# Altium integrated library TI Data Converters Analog to Digital Converter.IntLib: 2197 symbols (part 109 of 168)
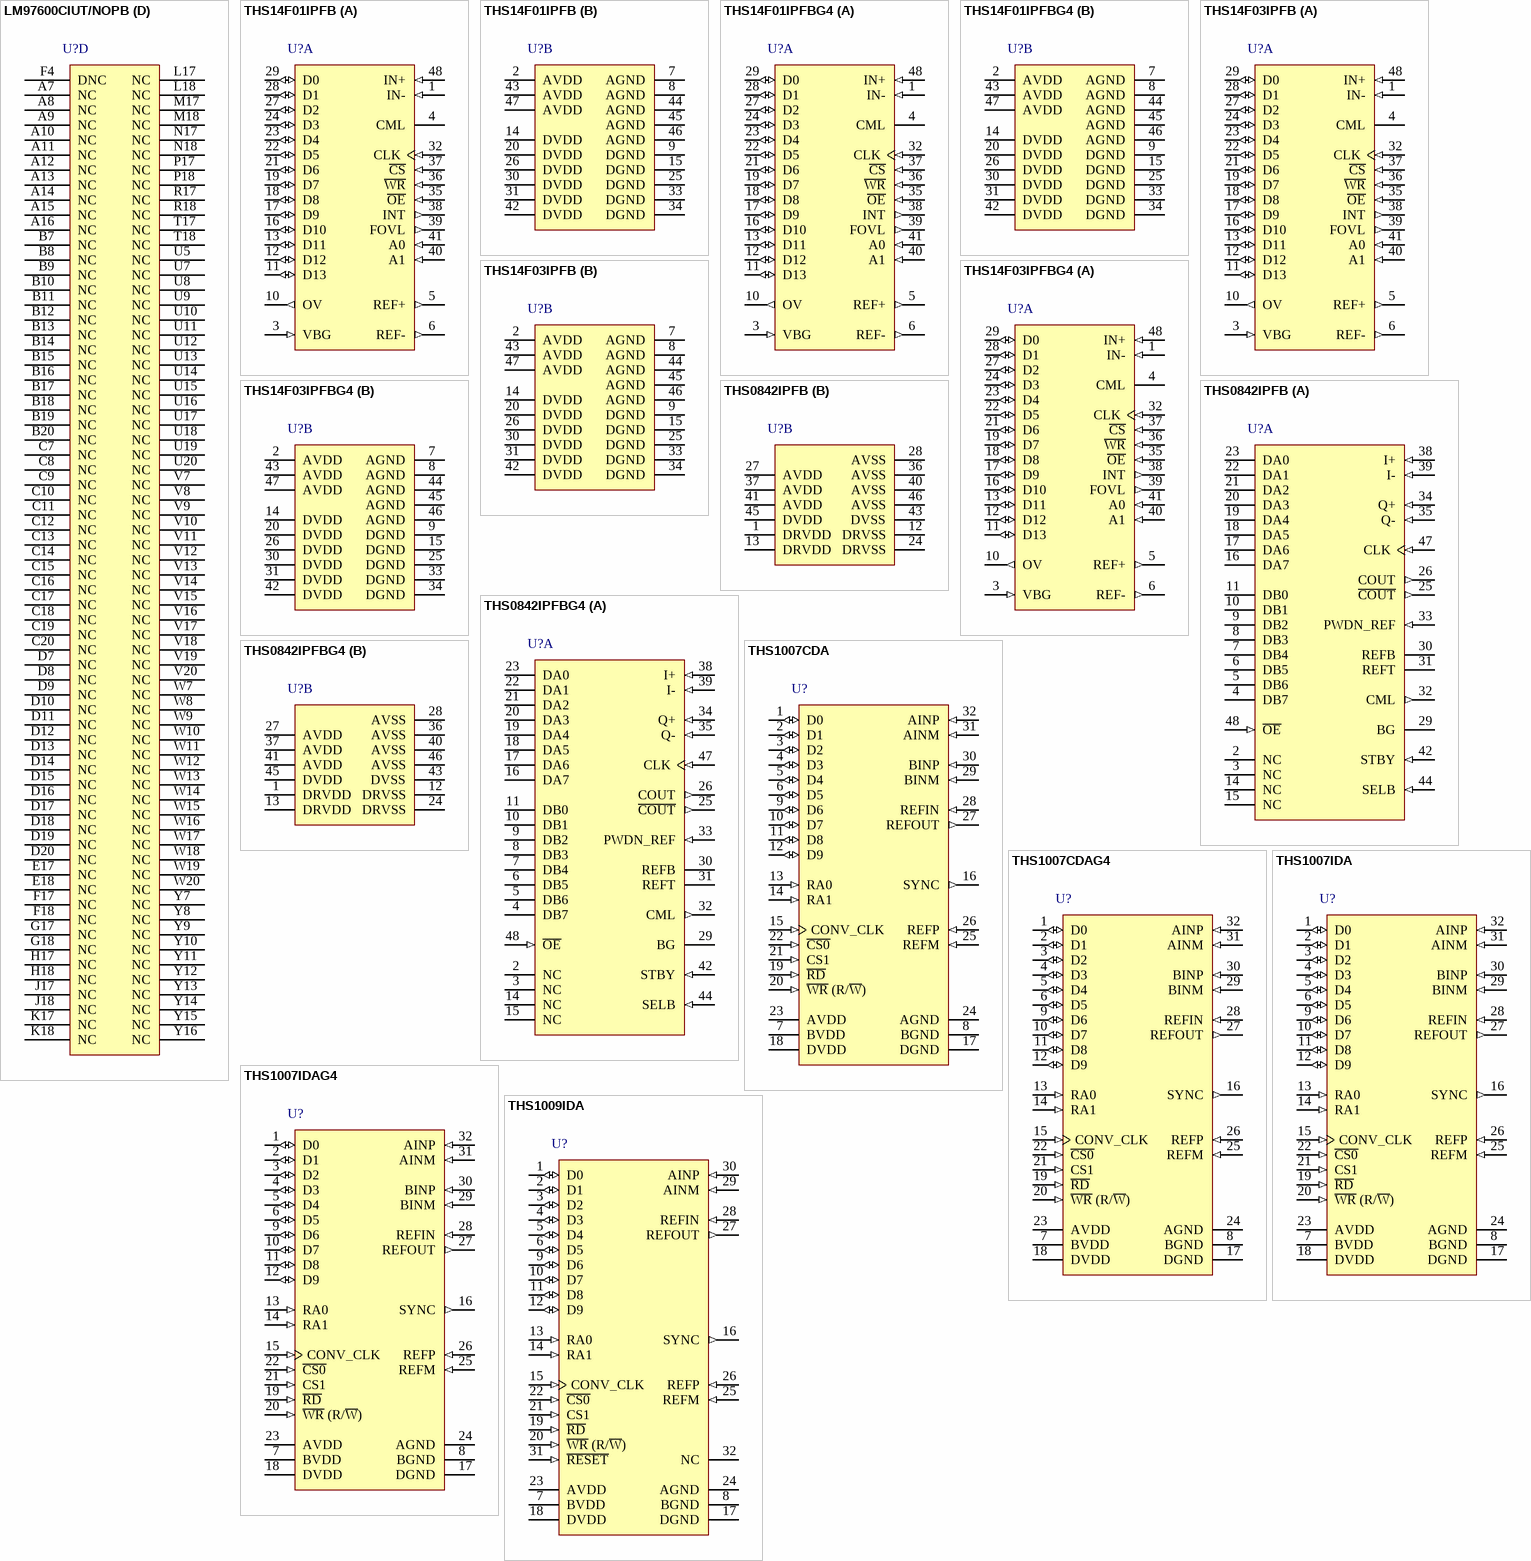
[diagram p234: symbols LM97600CIUT/NOPB to THS1009IDA]

## THS14F01IPFB
designator U?
14-Bit, 1 MSPS ADC with 32-Word FIFO, -40 to 85 degC, 48-pin QFP (PFB48), Green (RoHS & no Sb/Br); Manufacturer: Texas Instruments; PartNumber: THS14F01IPFB; # Input Channels: 1; Analog Voltage AV/DD(Max)(V): 3.6; Analog Voltage AV/DD(Min)(V): 3; Architecture: Pipeline; ENOB(Bits): 11.5; INL(Max)(+/-LSB): 2.5; Interface: Parallel CMOS; Resolution(Bits): 14; Sample Rate (max)(SPS): 1M; SFDR(dB): 80; SINAD(dB): 70; SNR(dB): 72; SubFamily: Precision ADC (<=10MSPS); DatasheetVersion: SLAS285; PackageVersion: 4073176/B, 10/1996; PackageReference: PFB48; PackageDescription: 48-Pin Plastic Flat Pack, Body 7 x 7 mm, Pitch 0.5 mm; Supplier 1: Digi-Key; Supplier Part Number 1: ADS7800JUE4-ND; Supplier 2: Mouser; Supplier Part Number 2: 595-ADS7800JUE4; Digital Supply(Max)(V): 3.6; Digital Supply(Min)(V): 3; Eco-Plan: Green (RoHS & no Sb/Br); Mounting Technology: Surface Mount; Code_JEDEC: MS-026; ComponentLink1Description: Manufacturer URL; ComponentLink1URL: http://www.ti.com/; ComponentLink2Description: Datasheet; ComponentLink2URL: http://www.ti.com/general/docs/lit/getliterature.tsp?genericPartNumber=THS14F01&fileType=pdf; ComponentLink3Description: Package Specification; ComponentLink3URL: http://www.ti.com/lit/ml/mtqf019a/mtqf019a.pdf
footprint TI-PFB48_N (QFP, 48-Leads, Body 7x7mm, Pitch 0.5mm, IPC Medium Density)
footprint TI-PFB48_L (QFP, 48-Leads, Body 7x7mm, Pitch 0.5mm, IPC High Density)
footprint TI-PFB48_M (QFP, 48-Leads, Body 7x7mm, Pitch 0.5mm, IPC Low Density)
part A pins: 1 IN- (in) "Negative differential analog input", 3 VBG (in) "Reference input. This pin requires a 1-uF capacitor to AGND.", 4 CML "Reference midpoint. This pin requires a 0.1-uF capacitor to AGND.", 5 REF+ (out) "Positive reference output. This pin requires a 0.1-uF capacitor to AGND.", 6 REF- (out) "Negative reference output. This pin requires a 0.1-uF capacitor to AGND.", 10 OV (out) "Out of range output", 11 D13 (io) "Data inputs/outputs", 12 D12 (io) "Data inputs/outputs", 13 D11 (io) "Data inputs/outputs", 16 D10 (io) "Data inputs/outputs", 17 D9 (io) "Data inputs/outputs", 18 D8 (io) "Data inputs/outputs", 19 D7 (io) "Data inputs/outputs", 21 D6 (io) "Data inputs/outputs", 22 D5 (io) "Data inputs/outputs", 23 D4 (io) "Data inputs/outputs", 24 D3 (io) "Data inputs/outputs", 27 D2 (io) "Data inputs/outputs", 28 D1 (io) "Data inputs/outputs", 29 D0 (io) "Data inputs/outputs", 32 CLK (in) "Clock input", 35 ~{OE} (in) "Output enable. Active low", 36 ~{WR} (in) "Write signal. Active low", 37 ~{CS} (in) "Chip select input. Active low", 38 INT (out) "Interrupt output. Asserted when FIFO trigger level is reached. Programmable polarity", 39 FOVL (out) "FIFO Overflow. Asserted when FIFO is full. Programmable polarity", 40 A1 (in) "Address input", 41 A0 (in) "Address input", 48 IN+ (in) "Positive differential analog input"
part B pins: 2 AVDD (power) "Analog power supply", 7 AGND (power) "Analog ground", 8 AGND (power) "Analog ground", 9 DGND (power) "Digital ground", 14 DVDD (power) "Digital power supply", 15 DGND (power) "Digital ground", 20 DVDD (power) "Digital power supply", 25 DGND (power) "Digital ground", 26 DVDD (power) "Digital power supply", 30 DVDD (power) "Digital power supply", 31 DVDD (power) "Digital power supply", 33 DGND (power) "Digital ground", 34 DGND (power) "Digital ground", 42 DVDD (power) "Digital power supply", 43 AVDD (power) "Analog power supply", 44 AGND (power) "Analog ground", 45 AGND (power) "Analog ground", 46 AGND (power) "Analog ground", 47 AVDD (power) "Analog power supply"

## THS14F01IPFBG4
designator U?
14-Bit, 1 MSPS ADC with 32-Word FIFO, -40 to 85 degC, 48-pin QFP (PFB48), Green (RoHS & no Sb/Br); Manufacturer: Texas Instruments; PartNumber: THS14F01IPFBG4; # Input Channels: 1; Analog Voltage AV/DD(Max)(V): 3.6; Analog Voltage AV/DD(Min)(V): 3; Architecture: Pipeline; ENOB(Bits): 11.5; INL(Max)(+/-LSB): 2.5; Interface: Parallel CMOS; Resolution(Bits): 14; Sample Rate (max)(SPS): 1M; SFDR(dB): 80; SINAD(dB): 70; SNR(dB): 72; SubFamily: Precision ADC (<=10MSPS); DatasheetVersion: SLAS285; PackageVersion: 4073176/B, 10/1996; PackageReference: PFB48; PackageDescription: 48-Pin Plastic Flat Pack, Body 7 x 7 mm, Pitch 0.5 mm; Supplier 1: Digi-Key; Supplier Part Number 1: ADS7800KP-ND; Supplier 2: Newark; Supplier Part Number 2: 74C7062; Supplier 3: Mouser; Supplier Part Number 3: 595-ADS7800KP; Digital Supply(Max)(V): 3.6; Digital Supply(Min)(V): 3; Eco-Plan: Green (RoHS & no Sb/Br); Mounting Technology: Surface Mount; Code_JEDEC: MS-026; ComponentLink1Description: Manufacturer URL; ComponentLink1URL: http://www.ti.com/; ComponentLink2Description: Datasheet; ComponentLink2URL: http://www.ti.com/general/docs/lit/getliterature.tsp?genericPartNumber=THS14F01&fileType=pdf; ComponentLink3Description: Package Specification; ComponentLink3URL: http://www.ti.com/lit/ml/mtqf019a/mtqf019a.pdf
footprint TI-PFB48_N (QFP, 48-Leads, Body 7x7mm, Pitch 0.5mm, IPC Medium Density)
footprint TI-PFB48_L (QFP, 48-Leads, Body 7x7mm, Pitch 0.5mm, IPC High Density)
footprint TI-PFB48_M (QFP, 48-Leads, Body 7x7mm, Pitch 0.5mm, IPC Low Density)
part A pins: 1 IN- (in) "Negative differential analog input", 3 VBG (in) "Reference input. This pin requires a 1-uF capacitor to AGND.", 4 CML "Reference midpoint. This pin requires a 0.1-uF capacitor to AGND.", 5 REF+ (out) "Positive reference output. This pin requires a 0.1-uF capacitor to AGND.", 6 REF- (out) "Negative reference output. This pin requires a 0.1-uF capacitor to AGND.", 10 OV (out) "Out of range output", 11 D13 (io) "Data inputs/outputs", 12 D12 (io) "Data inputs/outputs", 13 D11 (io) "Data inputs/outputs", 16 D10 (io) "Data inputs/outputs", 17 D9 (io) "Data inputs/outputs", 18 D8 (io) "Data inputs/outputs", 19 D7 (io) "Data inputs/outputs", 21 D6 (io) "Data inputs/outputs", 22 D5 (io) "Data inputs/outputs", 23 D4 (io) "Data inputs/outputs", 24 D3 (io) "Data inputs/outputs", 27 D2 (io) "Data inputs/outputs", 28 D1 (io) "Data inputs/outputs", 29 D0 (io) "Data inputs/outputs", 32 CLK (in) "Clock input", 35 ~{OE} (in) "Output enable. Active low", 36 ~{WR} (in) "Write signal. Active low", 37 ~{CS} (in) "Chip select input. Active low", 38 INT (out) "Interrupt output. Asserted when FIFO trigger level is reached. Programmable polarity", 39 FOVL (out) "FIFO Overflow. Asserted when FIFO is full. Programmable polarity", 40 A1 (in) "Address input", 41 A0 (in) "Address input", 48 IN+ (in) "Positive differential analog input"
part B pins: 2 AVDD (power) "Analog power supply", 7 AGND (power) "Analog ground", 8 AGND (power) "Analog ground", 9 DGND (power) "Digital ground", 14 DVDD (power) "Digital power supply", 15 DGND (power) "Digital ground", 20 DVDD (power) "Digital power supply", 25 DGND (power) "Digital ground", 26 DVDD (power) "Digital power supply", 30 DVDD (power) "Digital power supply", 31 DVDD (power) "Digital power supply", 33 DGND (power) "Digital ground", 34 DGND (power) "Digital ground", 42 DVDD (power) "Digital power supply", 43 AVDD (power) "Analog power supply", 44 AGND (power) "Analog ground", 45 AGND (power) "Analog ground", 46 AGND (power) "Analog ground", 47 AVDD (power) "Analog power supply"

## THS14F03IPFB
designator U?
14-Bit, 3 MSPS ADC with 32-Word FIFO, -40 to 85 degC, 48-pin QFP (PFB48), Green (RoHS & no Sb/Br); Manufacturer: Texas Instruments; PartNumber: THS14F03IPFB; # Input Channels: 1; Analog Voltage AV/DD(Max)(V): 3.6; Analog Voltage AV/DD(Min)(V): 3; Architecture: Pipeline; ENOB(Bits): 11.5; INL(Max)(+/-LSB): 2.5; Interface: Parallel CMOS; Resolution(Bits): 14; Sample Rate (max)(SPS): 3M; SFDR(dB): 80; SINAD(dB): 70; SNR(dB): 72; SubFamily: Precision ADC (<=10MSPS); DatasheetVersion: SLAS285; PackageVersion: 4073176/B, 10/1996; PackageReference: PFB48; PackageDescription: 48-Pin Plastic Flat Pack, Body 7 x 7 mm, Pitch 0.5 mm; Supplier 1: Digi-Key; Supplier Part Number 1: ADS7800KPG4-ND; Supplier 2: Mouser; Supplier Part Number 2: 595-ADS7800KPG4; Digital Supply(Max)(V): 3.6; Digital Supply(Min)(V): 3; Eco-Plan: Green (RoHS & no Sb/Br); Mounting Technology: Surface Mount; Code_JEDEC: MS-026; ComponentLink1Description: Manufacturer URL; ComponentLink1URL: http://www.ti.com/; ComponentLink2Description: Datasheet; ComponentLink2URL: http://www.ti.com/general/docs/lit/getliterature.tsp?genericPartNumber=THS14F03&fileType=pdf; ComponentLink3Description: Package Specification; ComponentLink3URL: http://www.ti.com/lit/ml/mtqf019a/mtqf019a.pdf
footprint TI-PFB48_N (QFP, 48-Leads, Body 7x7mm, Pitch 0.5mm, IPC Medium Density)
footprint TI-PFB48_L (QFP, 48-Leads, Body 7x7mm, Pitch 0.5mm, IPC High Density)
footprint TI-PFB48_M (QFP, 48-Leads, Body 7x7mm, Pitch 0.5mm, IPC Low Density)
part A pins: 1 IN- (in) "Negative differential analog input", 3 VBG (in) "Reference input. This pin requires a 1-uF capacitor to AGND.", 4 CML "Reference midpoint. This pin requires a 0.1-uF capacitor to AGND.", 5 REF+ (out) "Positive reference output. This pin requires a 0.1-uF capacitor to AGND.", 6 REF- (out) "Negative reference output. This pin requires a 0.1-uF capacitor to AGND.", 10 OV (out) "Out of range output", 11 D13 (io) "Data inputs/outputs", 12 D12 (io) "Data inputs/outputs", 13 D11 (io) "Data inputs/outputs", 16 D10 (io) "Data inputs/outputs", 17 D9 (io) "Data inputs/outputs", 18 D8 (io) "Data inputs/outputs", 19 D7 (io) "Data inputs/outputs", 21 D6 (io) "Data inputs/outputs", 22 D5 (io) "Data inputs/outputs", 23 D4 (io) "Data inputs/outputs", 24 D3 (io) "Data inputs/outputs", 27 D2 (io) "Data inputs/outputs", 28 D1 (io) "Data inputs/outputs", 29 D0 (io) "Data inputs/outputs", 32 CLK (in) "Clock input", 35 ~{OE} (in) "Output enable. Active low", 36 ~{WR} (in) "Write signal. Active low", 37 ~{CS} (in) "Chip select input. Active low", 38 INT (out) "Interrupt output. Asserted when FIFO trigger level is reached. Programmable polarity", 39 FOVL (out) "FIFO Overflow. Asserted when FIFO is full. Programmable polarity", 40 A1 (in) "Address input", 41 A0 (in) "Address input", 48 IN+ (in) "Positive differential analog input"
part B pins: 2 AVDD (power) "Analog power supply", 7 AGND (power) "Analog ground", 8 AGND (power) "Analog ground", 9 DGND (power) "Digital ground", 14 DVDD (power) "Digital power supply", 15 DGND (power) "Digital ground", 20 DVDD (power) "Digital power supply", 25 DGND (power) "Digital ground", 26 DVDD (power) "Digital power supply", 30 DVDD (power) "Digital power supply", 31 DVDD (power) "Digital power supply", 33 DGND (power) "Digital ground", 34 DGND (power) "Digital ground", 42 DVDD (power) "Digital power supply", 43 AVDD (power) "Analog power supply", 44 AGND (power) "Analog ground", 45 AGND (power) "Analog ground", 46 AGND (power) "Analog ground", 47 AVDD (power) "Analog power supply"

## THS14F03IPFBG4
designator U?
14-Bit, 3 MSPS ADC with 32-Word FIFO, -40 to 85 degC, 48-pin QFP (PFB48), Green (RoHS & no Sb/Br); Manufacturer: Texas Instruments; PartNumber: THS14F03IPFBG4; # Input Channels: 1; Analog Voltage AV/DD(Max)(V): 3.6; Analog Voltage AV/DD(Min)(V): 3; Architecture: Pipeline; ENOB(Bits): 11.5; INL(Max)(+/-LSB): 2.5; Interface: Parallel CMOS; Resolution(Bits): 14; Sample Rate (max)(SPS): 3M; SFDR(dB): 80; SINAD(dB): 70; SNR(dB): 72; SubFamily: Precision ADC (<=10MSPS); DatasheetVersion: SLAS285; PackageVersion: 4073176/B, 10/1996; PackageReference: PFB48; PackageDescription: 48-Pin Plastic Flat Pack, Body 7 x 7 mm, Pitch 0.5 mm; Supplier 1: Digi-Key; Supplier Part Number 1: 296-25663-5-ND; Supplier 2: Newark; Supplier Part Number 2: 74C7063; Supplier 3: Mouser; Supplier Part Number 3: 595-ADS7800KU; Digital Supply(Max)(V): 3.6; Digital Supply(Min)(V): 3; Eco-Plan: Green (RoHS & no Sb/Br); Mounting Technology: Surface Mount; Code_JEDEC: MS-026; ComponentLink1Description: Manufacturer URL; ComponentLink1URL: http://www.ti.com/; ComponentLink2Description: Datasheet; ComponentLink2URL: http://www.ti.com/general/docs/lit/getliterature.tsp?genericPartNumber=THS14F03&fileType=pdf; ComponentLink3Description: Package Specification; ComponentLink3URL: http://www.ti.com/lit/ml/mtqf019a/mtqf019a.pdf
footprint TI-PFB48_N (QFP, 48-Leads, Body 7x7mm, Pitch 0.5mm, IPC Medium Density)
footprint TI-PFB48_L (QFP, 48-Leads, Body 7x7mm, Pitch 0.5mm, IPC High Density)
footprint TI-PFB48_M (QFP, 48-Leads, Body 7x7mm, Pitch 0.5mm, IPC Low Density)
part A pins: 1 IN- (in) "Negative differential analog input", 3 VBG (in) "Reference input. This pin requires a 1-uF capacitor to AGND.", 4 CML "Reference midpoint. This pin requires a 0.1-uF capacitor to AGND.", 5 REF+ (out) "Positive reference output. This pin requires a 0.1-uF capacitor to AGND.", 6 REF- (out) "Negative reference output. This pin requires a 0.1-uF capacitor to AGND.", 10 OV (out) "Out of range output", 11 D13 (io) "Data inputs/outputs", 12 D12 (io) "Data inputs/outputs", 13 D11 (io) "Data inputs/outputs", 16 D10 (io) "Data inputs/outputs", 17 D9 (io) "Data inputs/outputs", 18 D8 (io) "Data inputs/outputs", 19 D7 (io) "Data inputs/outputs", 21 D6 (io) "Data inputs/outputs", 22 D5 (io) "Data inputs/outputs", 23 D4 (io) "Data inputs/outputs", 24 D3 (io) "Data inputs/outputs", 27 D2 (io) "Data inputs/outputs", 28 D1 (io) "Data inputs/outputs", 29 D0 (io) "Data inputs/outputs", 32 CLK (in) "Clock input", 35 ~{OE} (in) "Output enable. Active low", 36 ~{WR} (in) "Write signal. Active low", 37 ~{CS} (in) "Chip select input. Active low", 38 INT (out) "Interrupt output. Asserted when FIFO trigger level is reached. Programmable polarity", 39 FOVL (out) "FIFO Overflow. Asserted when FIFO is full. Programmable polarity", 40 A1 (in) "Address input", 41 A0 (in) "Address input", 48 IN+ (in) "Positive differential analog input"
part B pins: 2 AVDD (power) "Analog power supply", 7 AGND (power) "Analog ground", 8 AGND (power) "Analog ground", 9 DGND (power) "Digital ground", 14 DVDD (power) "Digital power supply", 15 DGND (power) "Digital ground", 20 DVDD (power) "Digital power supply", 25 DGND (power) "Digital ground", 26 DVDD (power) "Digital power supply", 30 DVDD (power) "Digital power supply", 31 DVDD (power) "Digital power supply", 33 DGND (power) "Digital ground", 34 DGND (power) "Digital ground", 42 DVDD (power) "Digital power supply", 43 AVDD (power) "Analog power supply", 44 AGND (power) "Analog ground", 45 AGND (power) "Analog ground", 46 AGND (power) "Analog ground", 47 AVDD (power) "Analog power supply"

## THS0842IPFB
designator U?
8-Bit, 40 MSPS ADC Dual Channel (Configuration), Dual Simultaneous S&H, Low Power, Power Down, -40 to 85 degC, 48-pin QFP (PFB48), Green (RoHS & no Sb/Br); Manufacturer: Texas Instruments; PartNumber: THS0842IPFB; # Input Channels: 2; Analog Voltage AV/DD(Max)(V): 3.6; Analog Voltage AV/DD(Min)(V): 3; Architecture: Pipeline; ENOB(Bits): 6.9; INL(Max)(+/-LSB): 2.2; Interface: Parallel CMOS; Resolution(Bits): 8; Sample Rate (max)(SPS): 40M; SFDR(dB): 53; SINAD(dB): 43.5; SubFamily: High Speed ADC (>10MSPS); DatasheetVersion: SLAS246A; PackageVersion: 4073176/B, 10/1996; PackageReference: PFB48; PackageDescription: 48-Pin Plastic Flat Pack, Body 7 x 7 mm, Pitch 0.5 mm; Supplier 1: Digi-Key; Supplier Part Number 1: ADS7800KUE4-ND; Supplier 2: Newark; Supplier Part Number 2: 43K8990; Supplier 3: Mouser; Supplier Part Number 3: 595-ADS7800KUE4; Digital Supply(Max)(V): 3.6; Digital Supply(Min)(V): 3; Eco-Plan: Green (RoHS & no Sb/Br); Mounting Technology: Surface Mount; Code_JEDEC: MS-026; ComponentLink1Description: Manufacturer URL; ComponentLink1URL: http://www.ti.com/; ComponentLink2Description: Datasheet; ComponentLink2URL: http://www.ti.com/general/docs/lit/getliterature.tsp?genericPartNumber=THS0842&fileType=pdf; ComponentLink3Description: Package Specification; ComponentLink3URL: http://www.ti.com/lit/ml/mtqf019a/mtqf019a.pdf
footprint TI-PFB48_N (QFP, 48-Leads, Body 7x7mm, Pitch 0.5mm, IPC Medium Density)
footprint TI-PFB48_L (QFP, 48-Leads, Body 7x7mm, Pitch 0.5mm, IPC High Density)
footprint TI-PFB48_M (QFP, 48-Leads, Body 7x7mm, Pitch 0.5mm, IPC Low Density)
part A pins: 2 NC "No connect. Reserved for future use", 3 NC "No connect. Reserved for future use", 4 DB7 (hiz) "Data outputs. D7 is the MSB. This is the second bus. Data is output from the Q channel when dual bus output mode is selected. Pin SELB selects the output mode.", 5 DB6 (hiz) "Data outputs. D7 is the MSB. This is the second bus. Data is output from the Q channel when dual bus output mode is selected. Pin SELB selects the output mode.", 6 DB5 (hiz) "Data outputs. D7 is the MSB. This is the second bus. Data is output from the Q channel when dual bus output mode is selected. Pin SELB selects the output mode.", 7 DB4 (hiz) "Data outputs. D7 is the MSB. This is the second bus. Data is output from the Q channel when dual bus output mode is selected. Pin SELB selects the output mode.", 8 DB3 (hiz) "Data outputs. D7 is the MSB. This is the second bus. Data is output from the Q channel when dual bus output mode is selected. Pin SELB selects the output mode.", 9 DB2 (hiz) "Data outputs. D7 is the MSB. This is the second bus. Data is output from the Q channel when dual bus output mode is selected. Pin SELB selects the output mode.", 10 DB1 (hiz) "Data outputs. D7 is the MSB. This is the second bus. Data is output from the Q channel when dual bus output mode is selected. Pin SELB selects the output mode.", 11 DB0 (hiz) "Data outputs. D7 is the MSB. This is the second bus. Data is output from the Q channel when dual bus output mode is selected. Pin SELB selects the output mode.", 14 NC "No connect. Reserved for future use", 15 NC "No connect. Reserved for future use", 16 DA7 (hiz) "Data outputs for bus A. D7 is MSB. This is the primary bus. Data from both input channels can be output on this bus or data from the I channel only. Pin SELB selects the output mode.", 17 DA6 (hiz) "Data outputs for bus A. D7 is MSB. This is the primary bus. Data from both input channels can be output on this bus or data from the I channel only. Pin SELB selects the output mode.", 18 DA5 (hiz) "Data outputs for bus A. D7 is MSB. This is the primary bus. Data from both input channels can be output on this bus or data from the I channel only. Pin SELB selects the output mode.", 19 DA4 (hiz) "Data outputs for bus A. D7 is MSB. This is the primary bus. Data from both input channels can be output on this bus or data from the I channel only. Pin SELB selects the output mode.", 20 DA3 (hiz) "Data outputs for bus A. D7 is MSB. This is the primary bus. Data from both input channels can be output on this bus or data from the I channel only. Pin SELB selects the output mode.", 21 DA2 (hiz) "Data outputs for bus A. D7 is MSB. This is the primary bus. Data from both input channels can be output on this bus or data from the I channel only. Pin SELB selects the output mode.", 22 DA1 (hiz) "Data outputs for bus A. D7 is MSB. This is the primary bus. Data from both input channels can be output on this bus or data from the I channel only. Pin SELB selects the output mode.", 23 DA0 (hiz) "Data outputs for bus A. D7 is MSB. This is the primary bus. Data from both input channels can be output on this bus or data from the I channel only. Pin SELB selects the output mode.", 25 ~{COUT} (out) "Inverted latch clock for the data outputs", 26 COUT (out) "Latch clock for the data outputs", 29 BG "Band gap reference voltage. A 1-uF capacitor with a 0.1-uF capacitor in parallel should be connected between this terminal and AVSS for external filtering.", 30 REFB "Reference voltage bottom. The voltage at this terminal defines the bottom reference voltage for the ADC. Sufficient filtering should be applied to this input. A 1-uF capacitor with a 0.1-uF capacitor in parallel should be (See Datasheet)", 31 REFT "Reference voltage top. The voltage at this terminal defines the top reference voltage for the ADC. Sufficient filtering should be applied to this input. A 1-uF capacitor with a 0.1-uF capacitor in parallel should be (See Datasheet)", 32 CML (out) "Common mode level. This voltage is equal to (AVDD - AVSS)/2. An external 1-uF capacitor with a 0.1-uF capacitor in parallel should be connected between this terminal and AVSS.", 33 PWDN_REF (in) "Power down for internal reference voltages. A high on this terminal will disable the internal reference circuit.", 34 Q+ (in) "Positive input for analog channel 1", 35 Q- (in) "Negative input for analog channel 1", 38 I+ (in) "Positive input for analog channel 0.", 39 I- (in) "Negative input for analog channel 0.", 42 STBY (in) "Standby input. A high level on this terminal will power down the device.", 44 SELB (in) "Selects either single bus or data output or dual bus output data output. A low selects dual bus data output.", 47 CLK (in) "Clock input. The input is sampled on each rising edge of CLK.", 48 ~{OE} (in) "Output enable. A high on this terminal will disable the output bus"
part B pins: 1 DRVDD (power) "Supply voltage for output drivers", 12 DRVSS (power) "Ground for digital output drivers", 13 DRVDD (power) "Supply voltage for output drivers", 24 DRVSS (power) "Ground for digital output drivers", 27 AVDD (power) "Analog supply voltage", 28 AVSS (power) "Analog ground", 36 AVSS (power) "Analog ground", 37 AVDD (power) "Analog supply voltage", 40 AVSS (power) "Analog ground", 41 AVDD (power) "Analog supply voltage", 43 DVSS (power) "Digital ground", 45 DVDD (power) "Digital supply voltage", 46 AVSS (power) "Analog ground"

## THS0842IPFBG4
designator U?
8-Bit, 40 MSPS ADC Dual Channel (Configuration), Dual Simultaneous S&H, Low Power, Power Down, -40 to 85 degC, 48-pin QFP (PFB48), Green (RoHS & no Sb/Br); Manufacturer: Texas Instruments; PartNumber: THS0842IPFBG4; # Input Channels: 2; Analog Voltage AV/DD(Max)(V): 3.6; Analog Voltage AV/DD(Min)(V): 3; Architecture: Pipeline; ENOB(Bits): 6.9; INL(Max)(+/-LSB): 2.2; Interface: Parallel CMOS; Resolution(Bits): 8; Sample Rate (max)(SPS): 40M; SFDR(dB): 53; SINAD(dB): 43.5; SubFamily: High Speed ADC (>10MSPS); DatasheetVersion: SLAS246A; PackageVersion: 4073176/B, 10/1996; PackageReference: PFB48; PackageDescription: 48-Pin Plastic Flat Pack, Body 7 x 7 mm, Pitch 0.5 mm; Supplier 1: Digi-Key; Supplier Part Number 1: 296-20673-ND; Supplier 2: Newark; Supplier Part Number 2: 63R9783; Supplier 3: Mouser; Supplier Part Number 3: 595-ADS5444MPFPEP; Digital Supply(Max)(V): 3.6; Digital Supply(Min)(V): 3; Eco-Plan: Green (RoHS & no Sb/Br); Mounting Technology: Surface Mount; Code_JEDEC: MS-026; ComponentLink1Description: Manufacturer URL; ComponentLink1URL: http://www.ti.com/; ComponentLink2Description: Datasheet; ComponentLink2URL: http://www.ti.com/general/docs/lit/getliterature.tsp?genericPartNumber=THS0842&fileType=pdf; ComponentLink3Description: Package Specification; ComponentLink3URL: http://www.ti.com/lit/ml/mtqf019a/mtqf019a.pdf
footprint TI-PFB48_N (QFP, 48-Leads, Body 7x7mm, Pitch 0.5mm, IPC Medium Density)
footprint TI-PFB48_L (QFP, 48-Leads, Body 7x7mm, Pitch 0.5mm, IPC High Density)
footprint TI-PFB48_M (QFP, 48-Leads, Body 7x7mm, Pitch 0.5mm, IPC Low Density)
part A pins: 2 NC "No connect. Reserved for future use", 3 NC "No connect. Reserved for future use", 4 DB7 (hiz) "Data outputs. D7 is the MSB. This is the second bus. Data is output from the Q channel when dual bus output mode is selected. Pin SELB selects the output mode.", 5 DB6 (hiz) "Data outputs. D7 is the MSB. This is the second bus. Data is output from the Q channel when dual bus output mode is selected. Pin SELB selects the output mode.", 6 DB5 (hiz) "Data outputs. D7 is the MSB. This is the second bus. Data is output from the Q channel when dual bus output mode is selected. Pin SELB selects the output mode.", 7 DB4 (hiz) "Data outputs. D7 is the MSB. This is the second bus. Data is output from the Q channel when dual bus output mode is selected. Pin SELB selects the output mode.", 8 DB3 (hiz) "Data outputs. D7 is the MSB. This is the second bus. Data is output from the Q channel when dual bus output mode is selected. Pin SELB selects the output mode.", 9 DB2 (hiz) "Data outputs. D7 is the MSB. This is the second bus. Data is output from the Q channel when dual bus output mode is selected. Pin SELB selects the output mode.", 10 DB1 (hiz) "Data outputs. D7 is the MSB. This is the second bus. Data is output from the Q channel when dual bus output mode is selected. Pin SELB selects the output mode.", 11 DB0 (hiz) "Data outputs. D7 is the MSB. This is the second bus. Data is output from the Q channel when dual bus output mode is selected. Pin SELB selects the output mode.", 14 NC "No connect. Reserved for future use", 15 NC "No connect. Reserved for future use", 16 DA7 (hiz) "Data outputs for bus A. D7 is MSB. This is the primary bus. Data from both input channels can be output on this bus or data from the I channel only. Pin SELB selects the output mode.", 17 DA6 (hiz) "Data outputs for bus A. D7 is MSB. This is the primary bus. Data from both input channels can be output on this bus or data from the I channel only. Pin SELB selects the output mode.", 18 DA5 (hiz) "Data outputs for bus A. D7 is MSB. This is the primary bus. Data from both input channels can be output on this bus or data from the I channel only. Pin SELB selects the output mode.", 19 DA4 (hiz) "Data outputs for bus A. D7 is MSB. This is the primary bus. Data from both input channels can be output on this bus or data from the I channel only. Pin SELB selects the output mode.", 20 DA3 (hiz) "Data outputs for bus A. D7 is MSB. This is the primary bus. Data from both input channels can be output on this bus or data from the I channel only. Pin SELB selects the output mode.", 21 DA2 (hiz) "Data outputs for bus A. D7 is MSB. This is the primary bus. Data from both input channels can be output on this bus or data from the I channel only. Pin SELB selects the output mode.", 22 DA1 (hiz) "Data outputs for bus A. D7 is MSB. This is the primary bus. Data from both input channels can be output on this bus or data from the I channel only. Pin SELB selects the output mode.", 23 DA0 (hiz) "Data outputs for bus A. D7 is MSB. This is the primary bus. Data from both input channels can be output on this bus or data from the I channel only. Pin SELB selects the output mode.", 25 ~{COUT} (out) "Inverted latch clock for the data outputs", 26 COUT (out) "Latch clock for the data outputs", 29 BG "Band gap reference voltage. A 1-uF capacitor with a 0.1-uF capacitor in parallel should be connected between this terminal and AVSS for external filtering.", 30 REFB "Reference voltage bottom. The voltage at this terminal defines the bottom reference voltage for the ADC. Sufficient filtering should be applied to this input. A 1-uF capacitor with a 0.1-uF capacitor in parallel should be (See Datasheet)", 31 REFT "Reference voltage top. The voltage at this terminal defines the top reference voltage for the ADC. Sufficient filtering should be applied to this input. A 1-uF capacitor with a 0.1-uF capacitor in parallel should be (See Datasheet)", 32 CML (out) "Common mode level. This voltage is equal to (AVDD - AVSS)/2. An external 1-uF capacitor with a 0.1-uF capacitor in parallel should be connected between this terminal and AVSS.", 33 PWDN_REF (in) "Power down for internal reference voltages. A high on this terminal will disable the internal reference circuit.", 34 Q+ (in) "Positive input for analog channel 1", 35 Q- (in) "Negative input for analog channel 1", 38 I+ (in) "Positive input for analog channel 0.", 39 I- (in) "Negative input for analog channel 0.", 42 STBY (in) "Standby input. A high level on this terminal will power down the device.", 44 SELB (in) "Selects either single bus or data output or dual bus output data output. A low selects dual bus data output.", 47 CLK (in) "Clock input. The input is sampled on each rising edge of CLK.", 48 ~{OE} (in) "Output enable. A high on this terminal will disable the output bus"
part B pins: 1 DRVDD (power) "Supply voltage for output drivers", 12 DRVSS (power) "Ground for digital output drivers", 13 DRVDD (power) "Supply voltage for output drivers", 24 DRVSS (power) "Ground for digital output drivers", 27 AVDD (power) "Analog supply voltage", 28 AVSS (power) "Analog ground", 36 AVSS (power) "Analog ground", 37 AVDD (power) "Analog supply voltage", 40 AVSS (power) "Analog ground", 41 AVDD (power) "Analog supply voltage", 43 DVSS (power) "Digital ground", 45 DVDD (power) "Digital supply voltage", 46 AVSS (power) "Analog ground"

## THS1007CDA
designator U?
10-Bit, 6 MSPS Simultaneous Sampling Quad Channel ADC, Includes Parallel DSP / uP Interface & Channel Autoscan, 0 to 70 degC, 32-pin SOP (DA32), Green (RoHS & no Sb/Br); Manufacturer: Texas Instruments; PartNumber: THS1007CDA; # Input Channels: 4; Analog Voltage AV/DD(Max)(V): 5.25; Analog Voltage AV/DD(Min)(V): 4.75; Architecture: Pipeline; ENOB(Bits): 9.5; INL(Max)(+/-LSB): 1; Interface: Parallel CMOS; Resolution(Bits): 10; Sample Rate (max)(SPS): 6M; SFDR(dB): 65; SINAD(dB): 59; SNR(dB): 61; SubFamily: Precision ADC (<=10MSPS); DatasheetVersion: SLAS286B; PackageVersion: 4040066/F, 01/2009; PackageReference: DA32; PackageDescription: 32-Pin Plastic Small Outline, Body 11 x 6.1 mm, Pitch 0.65 mm; Supplier 1: Mouser; Supplier Part Number 1: 595-V62/06668-01XE; Digital Supply(Max)(V): 5.25; Digital Supply(Min)(V): 4.75; Eco-Plan: Green (RoHS & no Sb/Br); Mounting Technology: Surface Mount; Code_JEDEC: MO-225; ComponentLink1Description: Manufacturer URL; ComponentLink1URL: http://www.ti.com/; ComponentLink2Description: Datasheet; ComponentLink2URL: http://www.ti.com/general/docs/lit/getliterature.tsp?genericPartNumber=THS1007&fileType=pdf; ComponentLink3Description: Package Specification; ComponentLink3URL: http://www.ti.com/lit/ml/mtss002e/mtss002e.pdf
footprint TI-DA32_N (SOP, 32-Leads, Body 11x6.1mm, Pitch 0.65mm, IPC Medium Density)
footprint TI-DA32_L (SOP, 32-Leads, Body 11x6.1mm, Pitch 0.65mm, IPC High Density)
footprint TI-DA32_M (SOP, 32-Leads, Body 11x6.1mm, Pitch 0.65mm, IPC Low Density)
pins: 1 D0 (io) "Digital input, output; D0 = LSB", 2 D1 (io) "Digital input, output", 3 D2 (io) "Digital input, output", 4 D3 (io) "Digital input, output", 5 D4 (io) "Digital input, output", 6 D5 (io) "Digital input, output", 7 BVDD (power) "Digital supply voltage for buffer", 8 BGND (power) "Digital ground for buffer", 9 D6 (io) "Digital input, output", 10 D7 (io) "Digital input, output", 11 D8 (io) "Digital input, output", 12 D9 (io) "Digital input, output", 13 RA0 (in) "Digital input. RA0 is used as an address line for the control register. This is required for writing to the control register 0 and control register 1.", 14 RA1 (in) "Digital input. RA1 is used as an address line for the control register. This is required for writing to control register 0 and control register 1.", 15 CONV_CLK (in) "Digital input. This input is the conversion clock input.", 16 SYNC (out) "Synchronization output. This signal indicates in a multichannel operation that data of channel A is brought to the digital output and can therefore be used for synchronization.", 17 DGND (power) "Digital ground. Ground reference for digital circuitry.", 18 DVDD (power) "Digital supply voltage", 19 ~{RD} (in) "The R\D\ input is used only if the W\R\ input is configured as a write only input. In this case, it is a digital input, active low as a data read select from the processor. See timing section.", 20 ~{WR} (R/~{W}) (in) "This input is programmable. It functions as a read-write input R/W\ and can also be configured as a write-only input W\R\, which is active low and used as data write select from the processor. In this case, the R\D\ input is (See Datasheet)", 21 CS1 (in) "Chip select input (active high)", 22 ~{CS0} (in) "Chip select input (active low)", 23 AVDD (power) "Analog supply voltage", 24 AGND (power) "Analog ground", 25 REFM (in) "Reference input, requires a bypass capacitor of 10 uF to AGND in order to bypass the internal reference voltage. An external reference voltage at this input can be applied. This option can be programmed through control (See Datasheet)", 26 REFP (in) "Reference input, requires a bypass capacitor of 10 uF to AGND in order to bypass the internal reference voltage. An external reference voltage at this input can be applied. This option can be programmed through control (See Datasheet)", 27 REFOUT (out) "Analog fixed reference output voltage of 2.5 V. Sink and source capability of 250 uA. The reference output requires a capacitor of 10 uF to AGND for filtering and stability.", 28 REFIN (in) "Common-mode reference input for the analog input channels. It is recommended that this pin be connected to the reference output REFOUT.", 29 BINM (in) "Analog input, single-ended or negative input of differential channel B", 30 BINP (in) "Analog input, single-ended or positive input of differential channel B", 31 AINM (in) "Analog input, single-ended or negative input of differential channel A", 32 AINP (in) "Analog input, single-ended or positive input of differential channel A"

## THS1007CDAG4
designator U?
10-Bit, 6 MSPS Simultaneous Sampling Quad Channel ADC, Includes Parallel DSP / uP Interface & Channel Autoscan, 0 to 70 degC, 32-pin SOP (DA32), Green (RoHS & no Sb/Br); Manufacturer: Texas Instruments; PartNumber: THS1007CDAG4; # Input Channels: 4; Analog Voltage AV/DD(Max)(V): 5.25; Analog Voltage AV/DD(Min)(V): 4.75; Architecture: Pipeline; ENOB(Bits): 9.5; INL(Max)(+/-LSB): 1; Interface: Parallel CMOS; Resolution(Bits): 10; Sample Rate (max)(SPS): 6M; SFDR(dB): 65; SINAD(dB): 59; SNR(dB): 61; SubFamily: Precision ADC (<=10MSPS); DatasheetVersion: SLAS286B; PackageVersion: 4040066/F, 01/2009; PackageReference: DA32; PackageDescription: 32-Pin Plastic Small Outline, Body 11 x 6.1 mm, Pitch 0.65 mm; Supplier 1: Digi-Key; Supplier Part Number 1: 296-20672-ND; Supplier 2: Mouser; Supplier Part Number 2: 595-ADS5440MPFPEP; Digital Supply(Max)(V): 5.25; Digital Supply(Min)(V): 4.75; Eco-Plan: Green (RoHS & no Sb/Br); Mounting Technology: Surface Mount; Code_JEDEC: MO-225; ComponentLink1Description: Manufacturer URL; ComponentLink1URL: http://www.ti.com/; ComponentLink2Description: Datasheet; ComponentLink2URL: http://www.ti.com/general/docs/lit/getliterature.tsp?genericPartNumber=THS1007&fileType=pdf; ComponentLink3Description: Package Specification; ComponentLink3URL: http://www.ti.com/lit/ml/mtss002e/mtss002e.pdf
footprint TI-DA32_N (SOP, 32-Leads, Body 11x6.1mm, Pitch 0.65mm, IPC Medium Density)
footprint TI-DA32_L (SOP, 32-Leads, Body 11x6.1mm, Pitch 0.65mm, IPC High Density)
footprint TI-DA32_M (SOP, 32-Leads, Body 11x6.1mm, Pitch 0.65mm, IPC Low Density)
pins: 1 D0 (io) "Digital input, output; D0 = LSB", 2 D1 (io) "Digital input, output", 3 D2 (io) "Digital input, output", 4 D3 (io) "Digital input, output", 5 D4 (io) "Digital input, output", 6 D5 (io) "Digital input, output", 7 BVDD (power) "Digital supply voltage for buffer", 8 BGND (power) "Digital ground for buffer", 9 D6 (io) "Digital input, output", 10 D7 (io) "Digital input, output", 11 D8 (io) "Digital input, output", 12 D9 (io) "Digital input, output", 13 RA0 (in) "Digital input. RA0 is used as an address line for the control register. This is required for writing to the control register 0 and control register 1.", 14 RA1 (in) "Digital input. RA1 is used as an address line for the control register. This is required for writing to control register 0 and control register 1.", 15 CONV_CLK (in) "Digital input. This input is the conversion clock input.", 16 SYNC (out) "Synchronization output. This signal indicates in a multichannel operation that data of channel A is brought to the digital output and can therefore be used for synchronization.", 17 DGND (power) "Digital ground. Ground reference for digital circuitry.", 18 DVDD (power) "Digital supply voltage", 19 ~{RD} (in) "The R\D\ input is used only if the W\R\ input is configured as a write only input. In this case, it is a digital input, active low as a data read select from the processor. See timing section.", 20 ~{WR} (R/~{W}) (in) "This input is programmable. It functions as a read-write input R/W\ and can also be configured as a write-only input W\R\, which is active low and used as data write select from the processor. In this case, the R\D\ input is (See Datasheet)", 21 CS1 (in) "Chip select input (active high)", 22 ~{CS0} (in) "Chip select input (active low)", 23 AVDD (power) "Analog supply voltage", 24 AGND (power) "Analog ground", 25 REFM (in) "Reference input, requires a bypass capacitor of 10 uF to AGND in order to bypass the internal reference voltage. An external reference voltage at this input can be applied. This option can be programmed through control (See Datasheet)", 26 REFP (in) "Reference input, requires a bypass capacitor of 10 uF to AGND in order to bypass the internal reference voltage. An external reference voltage at this input can be applied. This option can be programmed through control (See Datasheet)", 27 REFOUT (out) "Analog fixed reference output voltage of 2.5 V. Sink and source capability of 250 uA. The reference output requires a capacitor of 10 uF to AGND for filtering and stability.", 28 REFIN (in) "Common-mode reference input for the analog input channels. It is recommended that this pin be connected to the reference output REFOUT.", 29 BINM (in) "Analog input, single-ended or negative input of differential channel B", 30 BINP (in) "Analog input, single-ended or positive input of differential channel B", 31 AINM (in) "Analog input, single-ended or negative input of differential channel A", 32 AINP (in) "Analog input, single-ended or positive input of differential channel A"

## THS1007IDA
designator U?
10-Bit, 6 MSPS Simultaneous Sampling Quad Channel ADC, Includes Parallel DSP / uP Interface & Channel Autoscan, -40 to 85 degC, 32-pin SOP (DA32), Green (RoHS & no Sb/Br); Manufacturer: Texas Instruments; PartNumber: THS1007IDA; # Input Channels: 4; Analog Voltage AV/DD(Max)(V): 5.25; Analog Voltage AV/DD(Min)(V): 4.75; Architecture: Pipeline; ENOB(Bits): 9.5; INL(Max)(+/-LSB): 1; Interface: Parallel CMOS; Resolution(Bits): 10; Sample Rate (max)(SPS): 6M; SFDR(dB): 65; SINAD(dB): 59; SNR(dB): 61; SubFamily: Precision ADC (<=10MSPS); DatasheetVersion: SLAS286B; PackageVersion: 4040066/F, 01/2009; PackageReference: DA32; PackageDescription: 32-Pin Plastic Small Outline, Body 11 x 6.1 mm, Pitch 0.65 mm; Supplier 1: Mouser; Supplier Part Number 1: 595-V62/06669-01XE; Digital Supply(Max)(V): 5.25; Digital Supply(Min)(V): 4.75; Eco-Plan: Green (RoHS & no Sb/Br); Mounting Technology: Surface Mount; Code_JEDEC: MO-225; ComponentLink1Description: Manufacturer URL; ComponentLink1URL: http://www.ti.com/; ComponentLink2Description: Datasheet; ComponentLink2URL: http://www.ti.com/general/docs/lit/getliterature.tsp?genericPartNumber=THS1007&fileType=pdf; ComponentLink3Description: Package Specification; ComponentLink3URL: http://www.ti.com/lit/ml/mtss002e/mtss002e.pdf
footprint TI-DA32_N (SOP, 32-Leads, Body 11x6.1mm, Pitch 0.65mm, IPC Medium Density)
footprint TI-DA32_L (SOP, 32-Leads, Body 11x6.1mm, Pitch 0.65mm, IPC High Density)
footprint TI-DA32_M (SOP, 32-Leads, Body 11x6.1mm, Pitch 0.65mm, IPC Low Density)
pins: 1 D0 (io) "Digital input, output; D0 = LSB", 2 D1 (io) "Digital input, output", 3 D2 (io) "Digital input, output", 4 D3 (io) "Digital input, output", 5 D4 (io) "Digital input, output", 6 D5 (io) "Digital input, output", 7 BVDD (power) "Digital supply voltage for buffer", 8 BGND (power) "Digital ground for buffer", 9 D6 (io) "Digital input, output", 10 D7 (io) "Digital input, output", 11 D8 (io) "Digital input, output", 12 D9 (io) "Digital input, output", 13 RA0 (in) "Digital input. RA0 is used as an address line for the control register. This is required for writing to the control register 0 and control register 1.", 14 RA1 (in) "Digital input. RA1 is used as an address line for the control register. This is required for writing to control register 0 and control register 1.", 15 CONV_CLK (in) "Digital input. This input is the conversion clock input.", 16 SYNC (out) "Synchronization output. This signal indicates in a multichannel operation that data of channel A is brought to the digital output and can therefore be used for synchronization.", 17 DGND (power) "Digital ground. Ground reference for digital circuitry.", 18 DVDD (power) "Digital supply voltage", 19 ~{RD} (in) "The R\D\ input is used only if the W\R\ input is configured as a write only input. In this case, it is a digital input, active low as a data read select from the processor. See timing section.", 20 ~{WR} (R/~{W}) (in) "This input is programmable. It functions as a read-write input R/W\ and can also be configured as a write-only input W\R\, which is active low and used as data write select from the processor. In this case, the R\D\ input is (See Datasheet)", 21 CS1 (in) "Chip select input (active high)", 22 ~{CS0} (in) "Chip select input (active low)", 23 AVDD (power) "Analog supply voltage", 24 AGND (power) "Analog ground", 25 REFM (in) "Reference input, requires a bypass capacitor of 10 uF to AGND in order to bypass the internal reference voltage. An external reference voltage at this input can be applied. This option can be programmed through control (See Datasheet)", 26 REFP (in) "Reference input, requires a bypass capacitor of 10 uF to AGND in order to bypass the internal reference voltage. An external reference voltage at this input can be applied. This option can be programmed through control (See Datasheet)", 27 REFOUT (out) "Analog fixed reference output voltage of 2.5 V. Sink and source capability of 250 uA. The reference output requires a capacitor of 10 uF to AGND for filtering and stability.", 28 REFIN (in) "Common-mode reference input for the analog input channels. It is recommended that this pin be connected to the reference output REFOUT.", 29 BINM (in) "Analog input, single-ended or negative input of differential channel B", 30 BINP (in) "Analog input, single-ended or positive input of differential channel B", 31 AINM (in) "Analog input, single-ended or negative input of differential channel A", 32 AINP (in) "Analog input, single-ended or positive input of differential channel A"

## THS1007IDAG4
designator U?
10-Bit, 6 MSPS Simultaneous Sampling Quad Channel ADC, Includes Parallel DSP / uP Interface & Channel Autoscan, -40 to 85 degC, 32-pin SOP (DA32), Green (RoHS & no Sb/Br); Manufacturer: Texas Instruments; PartNumber: THS1007IDAG4; # Input Channels: 4; Analog Voltage AV/DD(Max)(V): 5.25; Analog Voltage AV/DD(Min)(V): 4.75; Architecture: Pipeline; ENOB(Bits): 9.5; INL(Max)(+/-LSB): 1; Interface: Parallel CMOS; Resolution(Bits): 10; Sample Rate (max)(SPS): 6M; SFDR(dB): 65; SINAD(dB): 59; SNR(dB): 61; SubFamily: Precision ADC (<=10MSPS); DatasheetVersion: SLAS286B; PackageVersion: 4040066/F, 01/2009; PackageReference: DA32; PackageDescription: 32-Pin Plastic Small Outline, Body 11 x 6.1 mm, Pitch 0.65 mm; Supplier 1: Digi-Key; Supplier Part Number 1: ADS6224IRGZ25-ND; Supplier 2: Mouser; Supplier Part Number 2: 595-ADS6224IRGZ25; Digital Supply(Max)(V): 5.25; Digital Supply(Min)(V): 4.75; Eco-Plan: Green (RoHS & no Sb/Br); Mounting Technology: Surface Mount; Code_JEDEC: MO-225; ComponentLink1Description: Manufacturer URL; ComponentLink1URL: http://www.ti.com/; ComponentLink2Description: Datasheet; ComponentLink2URL: http://www.ti.com/general/docs/lit/getliterature.tsp?genericPartNumber=THS1007&fileType=pdf; ComponentLink3Description: Package Specification; ComponentLink3URL: http://www.ti.com/lit/ml/mtss002e/mtss002e.pdf
footprint TI-DA32_N (SOP, 32-Leads, Body 11x6.1mm, Pitch 0.65mm, IPC Medium Density)
footprint TI-DA32_L (SOP, 32-Leads, Body 11x6.1mm, Pitch 0.65mm, IPC High Density)
footprint TI-DA32_M (SOP, 32-Leads, Body 11x6.1mm, Pitch 0.65mm, IPC Low Density)
pins: 1 D0 (io) "Digital input, output; D0 = LSB", 2 D1 (io) "Digital input, output", 3 D2 (io) "Digital input, output", 4 D3 (io) "Digital input, output", 5 D4 (io) "Digital input, output", 6 D5 (io) "Digital input, output", 7 BVDD (power) "Digital supply voltage for buffer", 8 BGND (power) "Digital ground for buffer", 9 D6 (io) "Digital input, output", 10 D7 (io) "Digital input, output", 11 D8 (io) "Digital input, output", 12 D9 (io) "Digital input, output", 13 RA0 (in) "Digital input. RA0 is used as an address line for the control register. This is required for writing to the control register 0 and control register 1.", 14 RA1 (in) "Digital input. RA1 is used as an address line for the control register. This is required for writing to control register 0 and control register 1.", 15 CONV_CLK (in) "Digital input. This input is the conversion clock input.", 16 SYNC (out) "Synchronization output. This signal indicates in a multichannel operation that data of channel A is brought to the digital output and can therefore be used for synchronization.", 17 DGND (power) "Digital ground. Ground reference for digital circuitry.", 18 DVDD (power) "Digital supply voltage", 19 ~{RD} (in) "The R\D\ input is used only if the W\R\ input is configured as a write only input. In this case, it is a digital input, active low as a data read select from the processor. See timing section.", 20 ~{WR} (R/~{W}) (in) "This input is programmable. It functions as a read-write input R/W\ and can also be configured as a write-only input W\R\, which is active low and used as data write select from the processor. In this case, the R\D\ input is (See Datasheet)", 21 CS1 (in) "Chip select input (active high)", 22 ~{CS0} (in) "Chip select input (active low)", 23 AVDD (power) "Analog supply voltage", 24 AGND (power) "Analog ground", 25 REFM (in) "Reference input, requires a bypass capacitor of 10 uF to AGND in order to bypass the internal reference voltage. An external reference voltage at this input can be applied. This option can be programmed through control (See Datasheet)", 26 REFP (in) "Reference input, requires a bypass capacitor of 10 uF to AGND in order to bypass the internal reference voltage. An external reference voltage at this input can be applied. This option can be programmed through control (See Datasheet)", 27 REFOUT (out) "Analog fixed reference output voltage of 2.5 V. Sink and source capability of 250 uA. The reference output requires a capacitor of 10 uF to AGND for filtering and stability.", 28 REFIN (in) "Common-mode reference input for the analog input channels. It is recommended that this pin be connected to the reference output REFOUT.", 29 BINM (in) "Analog input, single-ended or negative input of differential channel B", 30 BINP (in) "Analog input, single-ended or positive input of differential channel B", 31 AINM (in) "Analog input, single-ended or negative input of differential channel A", 32 AINP (in) "Analog input, single-ended or positive input of differential channel A"